# Altium schematic symbol library reference.SchLib: 1 symbol
Pins are listed as number, name and electrical type; pins without a type are passive.

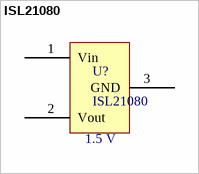
[diagram p0: symbol ISL21080]

## ISL21080
designator U?  Output Voltage: 1.5 V
300nA NanoPower Voltage References; Supplier 1: Digi-Key; Supplier Part Number 1: ISL21080CIH315Z-T7ACT-ND
footprint SOT23-3 (SOT23, 3-Leads, Body 2.9x1.3mm, Pitch 0.95mm, Lead Span 2.3mm, IPC Medium Density)
pins: 1 Vin, 2 Vout, 3 GND